# Altium integrated library CC0402BRNPO9BN2R2.IntLib: 1 symbol
Pins are listed as number, name and electrical type; pins without a type are passive.

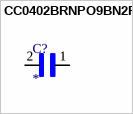
[diagram p0: symbol CC0402BRNPO9BN2R2]

## CC0402BRNPO9BN2R2
designator C?
CAP CER 2.2PF 50V C0G/NPO 0402; MP: CC0402BRNPO9BN2R2; Package: None; Price: None; Value: *; Availability: Unavailable
footprint CAPC1005X55N
pins: 1, 2